# Altium footprint library LED_SMD.PcbLib: 5 footprints
Each footprint in its own frame and in the unit in brackets; x right, y up, seen from the top. Pads: shape width x height; smd on the part's side, far side on the other; paste and mask are expansions set on the pad; w line width, h text height; cw(c..) or ccw(c..) is an arc to the next point about the centre after c.
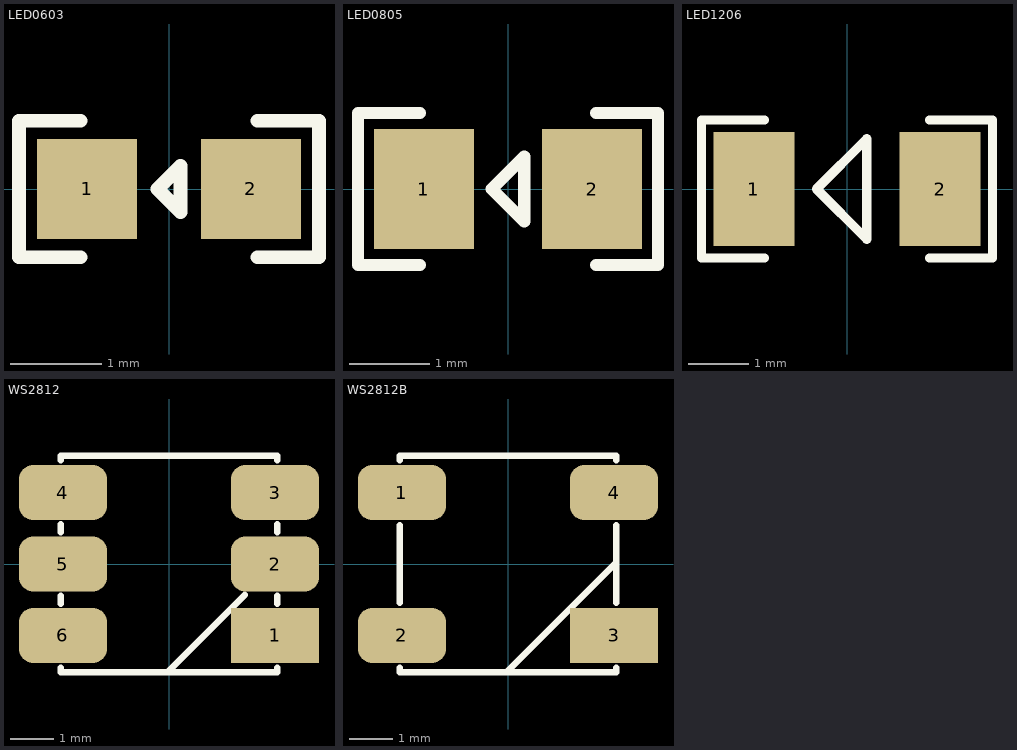
[diagram p0: the footprints below, top view; thin cyan lines are the x and y axes]

## LED0603 [mm] "Chip Diode Led, Body 1.6x0.8mm, IPC Low Density"
height 0.6
pads (2):
  rect 1.1x1.1 smd: 1(-0.9,0) 2(0.9,0)
Top Overlay:
  lines w0.152: -0.975,-0.75 -1.65,-0.75 -1.65,0.75 -0.975,0.75 ; 0.975,-0.75 1.65,-0.75 1.65,0.75 0.975,0.75 ; -0.127,0 0.127,-0.254 0.127,0.254 -0.127,0
3D body: height 0.13, standoff 0, extent -0.58,-0.474 0.581,0.475
3D body: height 0.6, standoff 0, extent -0.849,-0.474 -0.58,0.475
3D body: height 0.6, standoff 0, extent -0.58,-0.474 0.581,0.475
3D body: height 0.6, standoff 0, extent 0.581,-0.474 0.85,0.475
3D body: height 0.18, standoff 0.13, extent -0.597,-0.051 -0.064,0.051
3D body: height 0.18, standoff 0.13, extent 0.165,-0.051 0.699,0.051
3D body: height 0.18, standoff 0.13, extent -0.095,-0.089 0.095,0.089

## LED0805 [mm] "Chip Diode Led, Body 2.0x1.3mm, IPC Low Density"
height 0.7
pads (2):
  rect 1.25x1.5 smd: 1(-1.05,0) 2(1.05,0)
Top Overlay:
  lines w0.152: -1.1,-0.95 -1.875,-0.95 -1.875,0.95 -1.1,0.95 ; 1.1,-0.95 1.875,-0.95 1.875,0.95 1.1,0.95 ; -0.203,0 0.203,0.406 0.203,-0.406 -0.203,0
3D body: height 0.7, standoff 0.13, extent -0.68,-0.675 0.68,0.675
3D body: height 0.7, standoff 0, extent -1.1,-0.675 -0.68,0.675
3D body: height 0.13, standoff 0, extent -0.68,-0.675 0.68,0.675
3D body: height 0.7, standoff 0, extent 0.68,-0.675 1.1,0.675
3D body: height 0.18, standoff 0.13, extent -0.68,-0.051 -0.064,0.051
3D body: height 0.18, standoff 0.13, extent 0.305,-0.051 0.68,0.051
3D body: height 0.18, standoff 0.13, extent -0.214,-0.229 0.214,0.229

## LED1206 [mm] "Chip Diode Led, Body 3.2x1.6mm, IPC Low Density"
height 0.75
pads (2):
  rect 1.35x1.9 smd: 1(-1.55,0) 2(1.55,0)
Top Overlay:
  lines w0.152: -1.375,-1.15 -2.425,-1.15 -2.425,1.15 -1.375,1.15 ; 1.375,-1.15 2.425,-1.15 2.425,1.15 1.375,1.15 ; -0.508,0 0.33,0.838 0.33,-0.838 -0.508,0
3D body: height 0.18, standoff 0.13, extent -1.18,-0.051 -0.064,0.051
3D body: height 0.18, standoff 0.13, extent 0.305,-0.051 1.181,0.051
3D body: height 0.18, standoff 0.13, extent -0.214,-0.229 0.214,0.229
3D body: height 0.75, standoff 0, extent -1.674,-0.874 -1.18,0.875
3D body: height 0.75, standoff 0.13, extent -1.18,-0.874 1.181,0.875
3D body: height 0.75, standoff 0, extent 1.181,-0.874 1.675,0.875
3D body: height 0.13, standoff 0, extent -1.18,-0.874 1.181,0.875

## WS2812 [mm]
pads (6):
  rect 2.032x1.27 smd: 1(2.45,-1.65)
  rrect50% 2.032x1.27 smd: 2(2.45,0) 3(2.45,1.65) 4(-2.45,1.65) 5(-2.45,0) 6(-2.45,-1.65)
Top Overlay:
  lines w0.152: -2.5,-2.4 -2.5,-2.5 2.5,-2.5 2.5,-2.4 ; -2.5,-0.914 -2.5,-0.737 ; -2.5,0.737 -2.5,0.914 ; -2.5,2.4 -2.5,2.5 2.5,2.5 2.5,2.4 ; -0.018,-2.482 1.753,-0.711 ; 2.5,-0.914 2.5,-0.737 ; 2.5,0.737 2.5,0.914
3D body: height 1.7, standoff 0, extent -2.5,-2.5 2.5,2.5
3D body: height 1.02, standoff 0, extent -2.576,-0.406 -2.5,0.406
3D body: height 1.02, standoff 0, extent -2.565,-2.057 -2.489,-1.245
3D body: height 1.02, standoff 0, extent -2.565,1.321 -2.489,2.134
3D body: height 1.02, standoff 0, extent 2.5,-0.406 2.576,0.406
3D body: height 1.02, standoff 0, extent 2.489,1.245 2.565,2.057
3D body: height 1.02, standoff 0, extent 2.489,-2.057 2.565,-1.245

## WS2812B [mm]
pads (4):
  rrect50% 2.032x1.27 smd: 1(-2.45,1.65) 2(-2.45,-1.65) 4(2.45,1.65)
  rect 2.032x1.27 smd: 3(2.45,-1.65)
Top Overlay:
  lines w0.152: -2.5,-2.4 -2.5,-2.5 2.5,-2.5 2.5,-2.4 ; -2.5,-0.9 -2.5,0.9 ; -2.5,2.4 -2.5,2.5 2.5,2.5 2.5,2.4 ; -0.018,-2.482 2.489,0.025 ; 2.5,-0.9 2.5,0.9
3D body: height 1.7, standoff 0, extent -2.5,-2.5 2.5,2.5
3D body: height 1.02, standoff 0, extent -2.565,-2.057 -2.489,-1.245
3D body: height 1.02, standoff 0, extent -2.553,1.245 -2.476,2.057
3D body: height 1.02, standoff 0, extent 2.477,1.245 2.553,2.057
3D body: height 1.02, standoff 0, extent 2.477,-2.057 2.553,-1.245